# Altium schematic symbol library HM55B.SCHLIB: 1 symbol
Pins are listed as number, name and electrical type; pins without a type are passive.

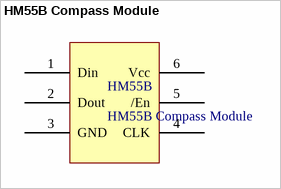
[diagram p0: symbol HM55B Compass Module]

## HM55B Compass Module
designator HM55B
pins: 1 Din, 2 Dout, 3 GND, 4 CLK, 5 /En, 6 Vcc